# Altium schematic symbol library LSM6DS33TR.SchLib: 1 symbol
Pins are listed as number, name and electrical type; pins without a type are passive.

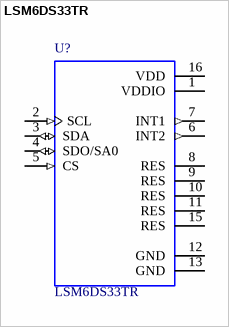
[diagram p0: symbol LSM6DS33TR]

## LSM6DS33TR
designator U?
Integrated Circuit, Misc s 3d Accelerometer And Gyro Lsm6ds3; MF: STMicroelectronics; MP: LSM6DS33TR; Availability: Unavailable; Package: LGA-16 STMicroelectronics; Price: None; SnapEDA_Link: https://www.snapeda.com/parts/LSM6DS33TR/STMicroelectronics/view-part/?ref=snap; Value: *
footprint *PQFN50P300X300X86-16N
pins: 1 VDDIO (power), 2 SCL (in), 3 SDA (io), 4 SDO/SA0 (io), 5 CS (in), 6 INT2 (out), 7 INT1 (out), 8 RES, 9 RES, 10 RES, 11 RES, 12 GND (power), 13 GND (power), 15 RES, 16 VDD (power)